# EAGLE library part MC34071 (library op-amp)
IC OPAMP GP 4.5MHZ
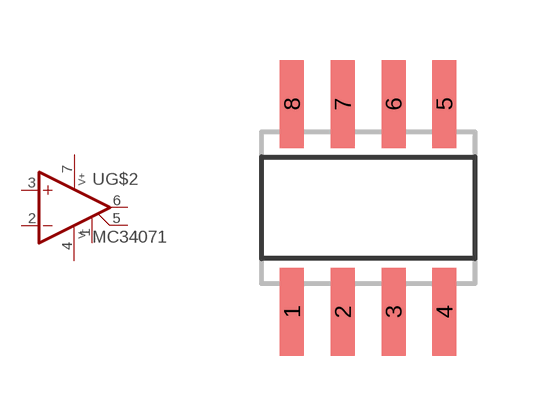
[diagram p74: symbol with the pads of SO08; footprint SO08]

Designator prefix U; gates G$1=_OFFNULL2 G$2=OPAMP G$3=PWR+-

## MC34071SO8 (DIGIKEY: MC34071DR2GOSCT-ND; MFR: ON Semiconductor; MPN: MC34071DR2G; P1I: o)  [SO08]
1  G$1:NULL1  pas
2  G$2:-IN  in
3  G$2:+IN  in
4  G$3:V-  pwr
5  G$1:NULL2  pas
6  G$2:OUT  out
7  G$3:V+  pwr

## Footprint SO08 (pad centres in mm)
SMALL OUTLINE INTEGRATED CIRCUIT body 3.9 mm/JEDEC MS-012AA
smd 0.6 x 2.2: 1 -1.905,-2.6; 2 -0.635,-2.6; 3 0.635,-2.6; 4 1.905,-2.6; 5 1.905,2.6; 6 0.635,2.6; 7 -0.635,2.6; 8 -1.905,2.6